# Altium footprint library Rohm Semiconductor Reflective Type Photosensors.PcbLib: 1 footprints
Each footprint in its own frame and in the unit in brackets; x right, y up, seen from the top. Pads: shape width x height; smd on the part's side, far side on the other; paste and mask are expansions set on the pad; w line width, h text height; cw(c..) or ccw(c..) is an arc to the next point about the centre after c.
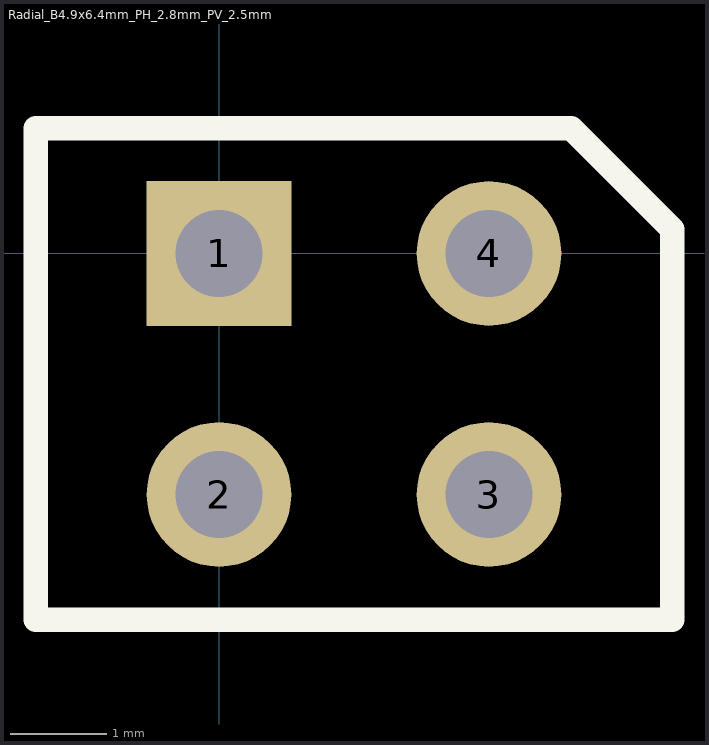
[diagram p0: the footprint, top view; thin cyan lines are the x and y axes]

## Radial_B4.9x6.4mm_PH_2.8mm_PV_2.5mm [mm] "Radial - 4 Leads, Body 6.4 x 4.9mm, Height 6.5mm, Pitch(H) 2.8mm, Pitch(V) 2.5mm"
pads (4):
  rect 1.5x1.5 hole 0.9: 1(0,0)
  round 1.5 hole 0.9: 2(0,-2.5) 3(2.8,-2.5) 4(2.8,0)
Top Overlay:
  lines w0.254: -1.9,-3.8 -1.9,1.3 3.653,1.3 4.7,0.253 4.7,-3.8 -1.9,-3.8